# Altium schematic symbol library MAX3243E.SchLib: 1 symbol
Pins are listed as number, name and electrical type; pins without a type are passive.

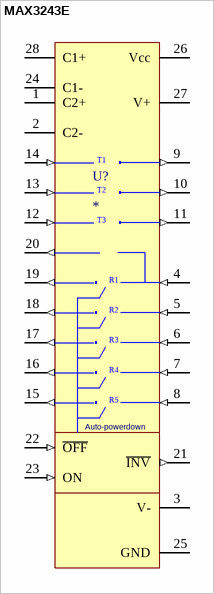
[diagram p0: symbol MAX3243E]

## MAX3243E
designator U?
Part No.: MAX3243EIPW; Manufacturer: Texas Instruments; Vendor: Mouser; Price Est.: $1.24
footprint TSSOP28 (Shrink Small Outline; 28 Leads; Body Width 4.4 mm; Pitch 0.65 mm)
pins: 1 C2+, 2 C2-, 3 V-, 4 R1IN (in), 5 R2IN (in), 6 R3IN (in), 7 R4IN (in), 8 R5IN (in), 9 T1OUT (out), 10 T2OUT (out), 11 T3OUT (out), 12 T3IN (in), 13 T2IN (in), 14 T1IN (in), 15 R5OUT (out), 16 R4OUT (out), 17 R3OUT (out), 18 R2OUT (out), 19 R1OUT (out), 20 R1OUT (out), 21 ~{INV} (out), 22 ~{OFF} (in), 23 ON (in), 24 C1-, 25 GND, 26 Vcc, 27 V+, 28 C1+
text: T1; T2; T3; R1; R2; R3; R4; R5; Auto-powerdown